# Altium footprint library PcbLib2.PcbLib: 3 footprints
Each footprint in its own frame and in the unit in brackets; x right, y up, seen from the top. Pads: shape width x height; smd on the part's side, far side on the other; paste and mask are expansions set on the pad; w line width, h text height; cw(c..) or ccw(c..) is an arc to the next point about the centre after c.
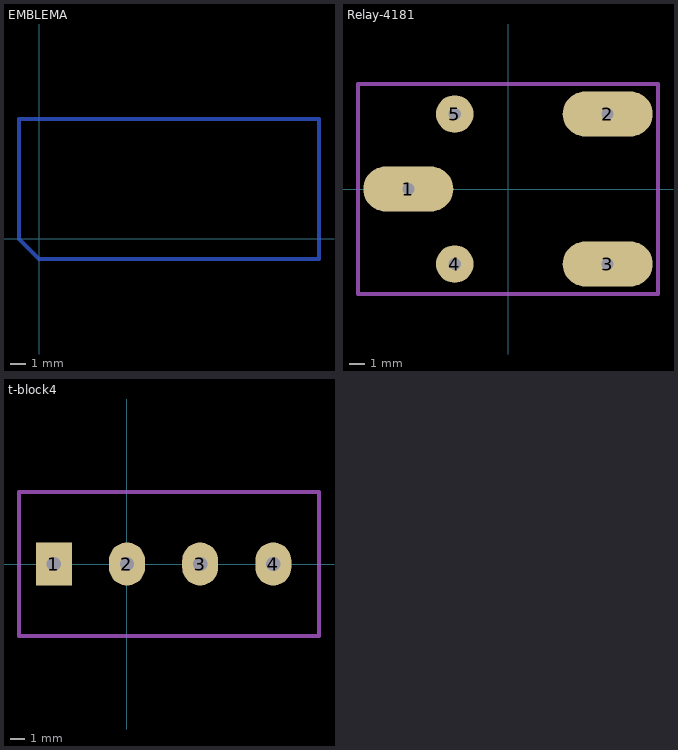
[diagram p0: the footprints below, top view; thin cyan lines are the x and y axes]

## EMBLEMA [mm]
Bottom Layer:
  lines w0.254: -1.27,0 -1.27,7.62 17.78,7.62 17.78,-1.27 0,-1.27 -1.27,0
  text "IFSC - LPEE" at 0,4.699 h1.52
  text "Zenite Solar" at 0,2.286 h1.52
  text "NATAN" at 0,0 h1.52

## Relay-4181 [mm]
height 13
pads (5):
  oval 6x3 hole 0.8 unplated: 1(-6.65,0) 2(6.65,5) 3(6.65,-5)
  round 2.5 hole 0.8 unplated: 4(-3.55,-5) 5(-3.55,5)
Mechanical 1:
  lines w0.254: -10,-7 -10,7 10,7 10,-7 -10,-7

## t-block4 [mm]
height 13
pads (4):
  rect 2.5x3 hole 1 unplated: 1(-5.08,0)
  oval 2.5x3 hole 1 unplated: 2(0,0) 3(5.08,0) 4(10.16,0)
Mechanical 1:
  lines w0.254: -7.5,-5 -7.5,5 13.335,5 13.335,-5 -7.5,-5